# Altium footprint library Inductors THD.PcbLib: 25 footprints (part 1 of 3)
Each footprint in its own frame and in the unit in brackets; x right, y up, seen from the top. Pads: shape width x height; smd on the part's side, far side on the other; paste and mask are expansions set on the pad; w line width, h text height; cw(c..) or ccw(c..) is an arc to the next point about the centre after c.
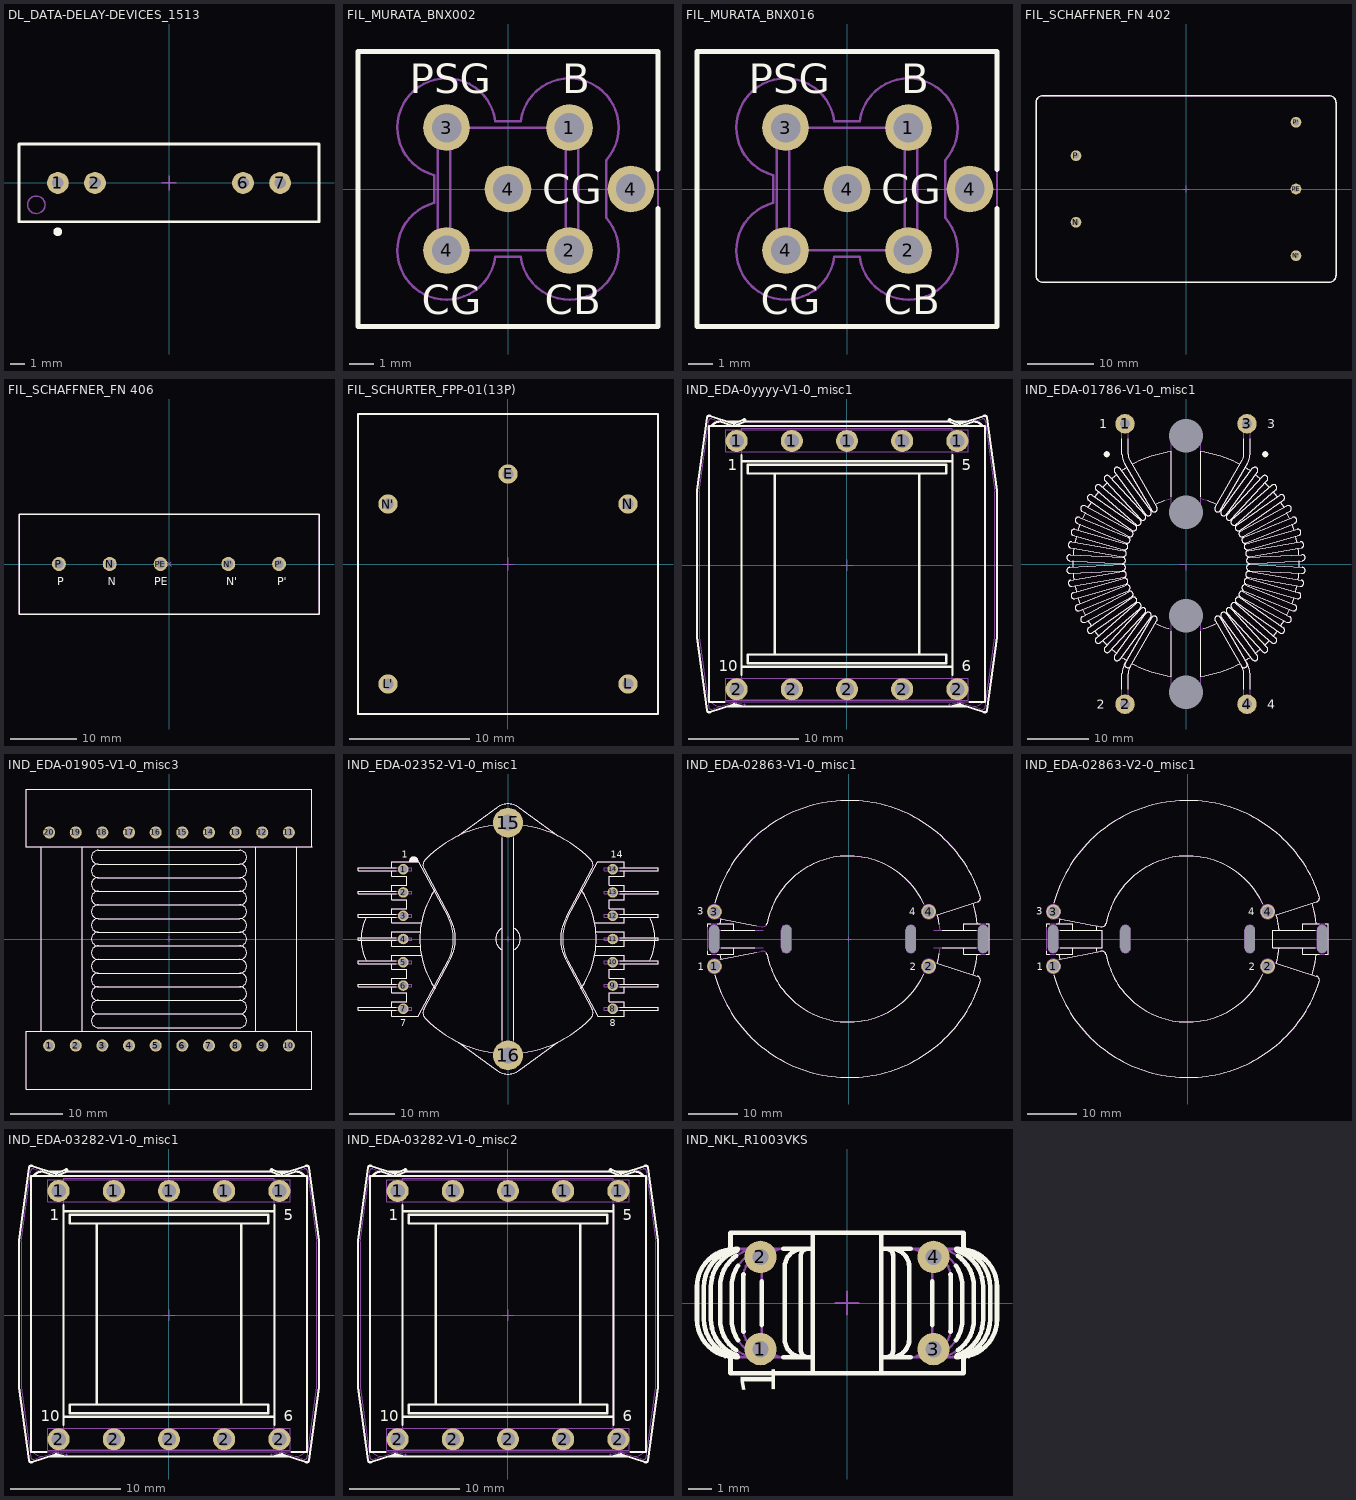
[diagram p0: the footprints below, top view; thin cyan lines are the x and y axes]

## DL_DATA-DELAY-DEVICES_1513 [mm] "Fixed SIP Delay Line 1513 Series"
height 7.11
pads (4):
  round 1.5 hole 0.8: 1(-7.62,0) 2(-5.08,0) 6(5.08,0) 7(7.62,0)
Top Overlay:
  circle w0.3: c-7.63,-3.35 r0.15
  lines w0.2: -10.287,-2.665 10.287,-2.665 10.287,2.665 -10.287,2.665 -10.287,-2.665
Mechanical 8:
  lines w0.1: -8.12,0 -7.62,0 ; -7.62,-0.5 -7.62,0 ; -7.62,0.5 -7.62,0 ; -7.12,0 -7.62,0 ; -5.58,0 -5.08,0 ; -5.08,-0.5 -5.08,0 ; -5.08,0.5 -5.08,0 ; -4.58,0 -5.08,0 ; -0.5,0 0,0 ; 0,-0.5 0,0 ; 0,0.5 0,0 ; 0.5,0 0,0 ; 4.58,0 5.08,0 ; 5.08,-0.5 5.08,0 ; 5.08,0.5 5.08,0 ; 5.58,0 5.08,0 ; 7.12,0 7.62,0 ; 7.62,-0.5 7.62,0 ; 7.62,0.5 7.62,0 ; 8.12,0 7.62,0
Mechanical 14:
  circle w0.1: c-9.1,-1.5 r0.6
  lines w0.1: -10.287,-2.665 -10.287,2.665 10.287,2.665 10.287,-2.665 -10.287,-2.665
3D body "DATA-DELAY-DEVICES_1513.stp": height 7.11, standoff -3.8, extent -10.287,-2.665 10.287,2.665

## FIL_MURATA_BNX002 [mm] "Block Type EMIFIL LC Combined Type, BNX002 Series"
height 13
pads (6):
  round 1.9 hole 1.2: 1(2.5,2.5) 2(2.5,-2.5) 3(-2.5,2.5) 4(-2.5,-2.5) 4(0,0) 4(5,0)
Top Overlay:
  lines w0.2: 6.1,-0.783 6.1,-5.6 -6.1,-5.6 -6.1,5.6 6.1,5.6 6.1,0.783
  text "CG" at 1.4,-0.6 h1.2
  text "PSG" at -4,3.9 h1.2
  text "CG" at -3.5,-5.1 h1.2
  text "CB" at 1.5,-5.1 h1.2
  text "B" at 2.2,3.9 h1.2
Mechanical 8:
  lines w0.1: -3,-2.5 -2.5,-2.5 ; -3,2.5 -2.5,2.5 ; -2.5,-3 -2.5,-2.5 ; -2.5,-2 -2.5,-2.5 ; -2.5,2 -2.5,2.5 ; -2.5,3 -2.5,2.5 ; -2,-2.5 -2.5,-2.5 ; -2,2.5 -2.5,2.5 ; -0.5,0 0,0 ; 0,-0.5 0,0 ; 0,0.5 0,0 ; 0.5,0 0,0 ; 2,-2.5 2.5,-2.5 ; 2,2.5 2.5,2.5 ; 2.5,-3 2.5,-2.5 ; 2.5,-2 2.5,-2.5 ; 2.5,2 2.5,2.5 ; 2.5,3 2.5,2.5 ; 3,-2.5 2.5,-2.5 ; 3,2.5 2.5,2.5 ; 4.5,0 5,0 ; 5,-0.5 5,0 ; 5,0.5 5,0 ; 5.5,0 5,0
Mechanical 14:
  lines w0.1: -2.35,-2.5 -2.35,2.5 ; 2.35,-2.5 2.35,2.473 ; -6.1,-5.6 6.1,-5.6 6.1,5.6 -6.1,5.6 -6.1,-5.6 ; -3,-0.564 ccw(c-2.5,-2.5) -0.516,-2.75 0.516,-2.75 ccw(c2.5,-2.5) 4,-1.177 4,1.177 ccw(c2.5,2.5) 0.516,2.75 -0.516,2.75 ccw(c-2.5,2.5) -3,0.564 -3,-0.564 ; -2.85,-2.5 2.85,-2.5 2.85,2.5 -2.85,2.5 -2.85,-2.5
3D body "FIL_MURATA_BNX002.stp": height 12.5, standoff -5, extent -6.1,-5.6 6.1,5.6

## FIL_MURATA_BNX016 [mm] "Block Type EMIFIL LC Combined Type, BNX01* Series"
height 8.5
pads (6):
  round 1.9 hole 1.2: 1(2.5,2.5) 2(2.5,-2.5) 3(-2.5,2.5) 4(-2.5,-2.5) 4(0,0) 4(5,0)
Top Overlay:
  lines w0.2: 6.1,-0.783 6.1,-5.6 -6.1,-5.6 -6.1,5.6 6.1,5.6 6.1,0.783
  text "B" at 2.2,3.9 h1.2
  text "CB" at 1.5,-5.1 h1.2
  text "CG" at -3.5,-5.1 h1.2
  text "PSG" at -4,3.9 h1.2
  text "CG" at 1.4,-0.6 h1.2
Mechanical 8:
  lines w0.1: -3,-2.5 -2.5,-2.5 ; -3,2.5 -2.5,2.5 ; -2.5,-3 -2.5,-2.5 ; -2.5,-2 -2.5,-2.5 ; -2.5,2 -2.5,2.5 ; -2.5,3 -2.5,2.5 ; -2,-2.5 -2.5,-2.5 ; -2,2.5 -2.5,2.5 ; -0.5,0 0,0 ; 0,-0.5 0,0 ; 0,0.5 0,0 ; 0.5,0 0,0 ; 2,-2.5 2.5,-2.5 ; 2,2.5 2.5,2.5 ; 2.5,-3 2.5,-2.5 ; 2.5,-2 2.5,-2.5 ; 2.5,2 2.5,2.5 ; 2.5,3 2.5,2.5 ; 3,-2.5 2.5,-2.5 ; 3,2.5 2.5,2.5 ; 4.5,0 5,0 ; 5,-0.5 5,0 ; 5,0.5 5,0 ; 5.5,0 5,0
Mechanical 14:
  lines w0.1: -2.35,-2.5 -2.35,2.5 ; 2.35,-2.5 2.35,2.473 ; -6.1,-5.6 6.1,-5.6 6.1,5.6 -6.1,5.6 -6.1,-5.6 ; -3,-0.564 ccw(c-2.5,-2.5) -0.516,-2.75 0.516,-2.75 ccw(c2.5,-2.5) 4,-1.177 4,1.177 ccw(c2.5,2.5) 0.516,2.75 -0.516,2.75 ccw(c-2.5,2.5) -3,0.564 -3,-0.564 ; -2.85,-2.5 2.85,-2.5 2.85,2.5 -2.85,2.5 -2.85,-2.5
3D body "FIL_MURATA_BNX016.stp": height 12, standoff -5, extent -6.1,-5.6 6.1,5.6

## FIL_SCHAFFNER_FN 402 [mm] "0.6 to 6.5A 250VAC Single Phase Low Cost PCB Filter (Body 45 x 28x 16.5mm)"
height 16.5
pads (5):
  round 1.6 hole 0.9: N(-16.5,-5) N'(16.5,-10) P(-16.5,5) P'(16.5,10) PE(16.5,0)
Top Overlay:
  lines w0.2: -22.5,-13 ccw(c-21.5,-13) -21.5,-14 21.5,-14 ccw(c21.5,-13) 22.5,-13 22.5,13 ccw(c21.5,13) 21.5,14 -21.5,14 ccw(c-21.5,13) -22.5,13 -22.5,-13
Mechanical 8:
  lines w0.1: -17,-5 -16.5,-5 ; -17,5 -16.5,5 ; -16.5,-5.5 -16.5,-5 ; -16.5,-4.5 -16.5,-5 ; -16.5,4.5 -16.5,5 ; -16.5,5.5 -16.5,5 ; -16,-5 -16.5,-5 ; -16,5 -16.5,5 ; -0.5,0 0,0 ; 0,-0.5 0,0 ; 0,0.5 0,0 ; 0.5,0 0,0 ; 16,-10 16.5,-10 ; 16,0 16.5,0 ; 16,10 16.5,10 ; 16.5,-10.5 16.5,-10 ; 16.5,-9.5 16.5,-10 ; 16.5,-0.5 16.5,0 ; 16.5,0.5 16.5,0 ; 16.5,9.5 16.5,10 ; 16.5,10.5 16.5,10 ; 17,-10 16.5,-10 ; 17,0 16.5,0 ; 17,10 16.5,10
Mechanical 14:
  lines w0.1: -20.5,14 -21.5,14 ; -21.5,14 ccw(c-21.5,13) -22.5,13 -22.5,-13 ccw(c-21.5,-13) -21.5,-14 21.5,-14 ccw(c21.5,-13) 22.5,-13 22.5,13 ccw(c21.5,13) 21.5,14 -21.5,14
3D body "FIL_SCHAFFNER_FN 402.stp": height 16.5, standoff -3.6, extent -22.5,-14 22.5,14

## FIL_SCHAFFNER_FN 406 [mm] "0.5 to 8.4A 250VAC Single Phase Ultra Compact EMC Filter (Body 45 x 15 x 28mm)"
height 28
pads (5):
  round 2.1 hole 1.4: N(-8.89,0) N'(8.89,0) P(-16.51,0) P'(16.51,0) PE(-1.27,0)
Top Overlay:
  lines w0.2: -22.5,-7.5 22.5,-7.5 22.5,7.5 -22.5,7.5 -22.5,-7.5
  text "P" at -16.8,-3.2 h1.2
  text "N" at -9.18,-3.2 h1.2
  text "PE" at -2.2,-3.2 h1.2
  text "N'" at 8.6,-3.2 h1.2
  text "P'" at 16.22,-3.2 h1.2
Mechanical 8:
  lines w0.1: -17.01,0 -16.51,0 ; -16.51,-0.5 -16.51,0 ; -16.51,0.5 -16.51,0 ; -16.01,0 -16.51,0 ; -9.39,0 -8.89,0 ; -8.89,-0.5 -8.89,0 ; -8.89,0.5 -8.89,0 ; -8.39,0 -8.89,0 ; -1.77,0 -1.27,0 ; -1.27,-0.5 -1.27,0 ; -1.27,0.5 -1.27,0 ; -0.77,0 -1.27,0 ; -0.354,-0.354 0,0 ; -0.354,0.354 0,0 ; 0.354,-0.354 0,0 ; 0.354,0.354 0,0 ; 8.39,0 8.89,0 ; 8.89,-0.5 8.89,0 ; 8.89,0.5 8.89,0 ; 9.39,0 8.89,0 ; 16.01,0 16.51,0 ; 16.51,-0.5 16.51,0 ; 16.51,0.5 16.51,0 ; 17.01,0 16.51,0
Mechanical 14:
  lines w0.1: -22.5,-7.5 22.5,-7.5 22.5,7.5 -22.5,7.5 -22.5,-7.5
3D body "FIL_SCHAFFNER_FN 406.stp": height 29.5, standoff -3.6, extent -22.5,-7.55 22.5,7.539

## FIL_SCHURTER_FPP-01(13P) [mm] "0.6 to 6.5A 250VAC Single Phase Low Cost PCB Filter (Body 45 x 28x 16.5mm)"
height 16.5
pads (5):
  round 1.6 hole 0.9: E(0,7.5) L(10,-10) L'(-10,-10) N(10,5) N'(-10,5)
Top Overlay:
  lines w0.2: -12.5,-12.5 12.5,-12.5 12.5,12.5 -12.5,12.5 -12.5,-12.5
Mechanical 8:
  lines w0.1: -10.5,-10 -10,-10 ; -10.5,5 -10,5 ; -10,-10.5 -10,-10 ; -10,-9.5 -10,-10 ; -10,4.5 -10,5 ; -10,5.5 -10,5 ; -9.5,-10 -10,-10 ; -9.5,5 -10,5 ; -0.5,0 0,0 ; -0.5,7.5 0,7.5 ; 0,-0.5 0,0 ; 0,0.5 0,0 ; 0,7 0,7.5 ; 0,8 0,7.5 ; 0.5,0 0,0 ; 0.5,7.5 0,7.5 ; 9.5,-10 10,-10 ; 9.5,5 10,5 ; 10,-10.5 10,-10 ; 10,-9.5 10,-10 ; 10,4.5 10,5 ; 10,5.5 10,5 ; 10.5,-10 10,-10 ; 10.5,5 10,5
Mechanical 14:
  lines w0.1: -12.5,-12.5 12.5,-12.5 12.5,12.5 -12.5,12.5 -12.5,-12.5
3D body "FIL_SCHURTER_FPP-01(13P).stp": height 25, standoff -3.8, extent -12.5,-12.5 12.5,12.5

## IND_EDA-0yyyy-V1-0_misc1 [mm] "see EDA-0yyyy-V1-0 _misc1"
height 12.9
pads (10):
  round 2 hole 1.3: 1(-10,11.25) 1(-5,11.25) 1(0,11.25) 1(5,11.25) 1(10,11.25) 2(-10,-11.25) 2(-5,-11.25) 2(0,-11.25) 2(5,-11.25) 2(10,-11.25)
Top Overlay:
  lines w0.2: -12.3,12.6 cw(c-11.5,12) -11.5,13 -11.482,13 -10.313,12.61 ccw(c-10.25,12.8) -10.169,12.617 -9.269,13.017 ccw(c-9.309,13.109) -9.35,13.2 -10.179,12.832 cw(c-10.26,13.014) -10.324,12.825 -12.421,13.524 ccw(c-12.485,13.334) -12.683,13.361 -13.588,6.758 ccw(c-13.389,6.731) -13.589,6.731 -13.589,-6.531 ccw(c-13.389,-6.531) -13.588,-6.558 -12.683,-13.161 ccw(c-12.485,-13.134) -12.421,-13.324 -10.303,-12.618 cw(c-10.239,-12.807) -10.196,-12.612 -9.35,-12.8 -10.85,-12.8 ; -11.1,-12.4 -12.5,-12.4 -12.5,12.6 12.5,12.6 12.5,-12.4 11.1,-12.4 ; -10.85,13 -9.8,13 ; -9.55,-9.95 -9.55,9.95 ; -9.55,-9.2 9.55,-9.2 ; -9.55,9.4 9.55,9.4 ; -9.308,13 9.308,13 ; -9.307,-12.8 9.307,-12.8 ; -6.55,-8.1 -6.55,8.3 ; 6.55,-8.1 6.55,8.3 ; 9.55,-9.95 9.55,9.95 ; 9.8,13 10.85,13 ; 10.85,-12.8 9.35,-12.8 10.196,-12.612 cw(c10.239,-12.807) 10.303,-12.618 12.421,-13.324 ccw(c12.485,-13.134) 12.683,-13.161 13.588,-6.558 ccw(c13.39,-6.531) 13.59,-6.531 13.59,6.731 ccw(c13.39,6.731) 13.588,6.758 12.683,13.361 ccw(c12.485,13.334) 12.421,13.524 10.324,12.825 cw(c10.26,13.014) 10.179,12.832 9.35,13.2 ccw(c9.309,13.109) 9.269,13.017 10.169,12.617 ccw(c10.25,12.8) 10.313,12.61 11.498,13.005 ; 11.483,13 11.5,13 cw(c11.5,12) 12.3,12.6 ; -9,-8.9 9,-8.9 9,-8.1 -9,-8.1 -9,-8.9 ; -9,8.3 9,8.3 9,9.1 -9,9.1 -9,8.3
  text "1" at -10.8,8.6 h1
  text "5" at 10.4,8.6 h1
  text "6" at 10.4,-9.6 h1
  text "10" at -11.6,-9.6 h1
Mechanical 8:
  lines w0.1: -10.5,-11.25 -10,-11.25 ; -10.5,11.25 -10,11.25 ; -10,-11.75 -10,-11.25 ; -10,-10.75 -10,-11.25 ; -10,10.75 -10,11.25 ; -10,11.75 -10,11.25 ; -9.5,-11.25 -10,-11.25 ; -9.5,11.25 -10,11.25 ; -5.5,-11.25 -5,-11.25 ; -5.5,11.25 -5,11.25 ; -5,-11.75 -5,-11.25 ; -5,-10.75 -5,-11.25 ; -5,10.75 -5,11.25 ; -5,11.75 -5,11.25 ; -4.5,-11.25 -5,-11.25 ; -4.5,11.25 -5,11.25 ; -0.5,-11.25 0,-11.25 ; -0.5,0 0,0 ; -0.5,11.25 0,11.25 ; 0,-11.75 0,-11.25 ; 0,-10.75 0,-11.25 ; 0,-0.5 0,0 ; 0,0.5 0,0 ; 0,10.75 0,11.25 ; 0,11.75 0,11.25 ; 0.5,-11.25 0,-11.25 ; 0.5,0 0,0 ; 0.5,11.25 0,11.25 ; 4.5,-11.25 5,-11.25 ; 4.5,11.25 5,11.25 ; 5,-11.75 5,-11.25 ; 5,-10.75 5,-11.25 ; 5,10.75 5,11.25 ; 5,11.75 5,11.25 ; 5.5,-11.25 5,-11.25 ; 5.5,11.25 5,11.25 ; 9.5,-11.25 10,-11.25 ; 9.5,11.25 10,11.25 ; 10,-11.75 10,-11.25 ; 10,-10.75 10,-11.25 ; 10,10.75 10,11.25 ; 10,11.75 10,11.25 ; 10.5,-11.25 10,-11.25 ; 10.5,11.25 10,11.25 ; -11,-12.25 11,-12.25 11,-10.25 -11,-10.25 -11,-12.25 ; -11,10.25 11,10.25 11,12.25 -11,12.25 -11,10.25
Mechanical 14:
  lines w0.1: -12.3,-12.4 ccw(c-11.5,-11.8) -11.5,-12.8 -11.482,-12.8 ; -12.3,12.6 cw(c-11.5,12) -11.5,13 -11.482,13 ; -10.85,-12.8 -9.35,-12.8 ; -10.85,13 -9.8,13 ; -9.55,-9.2 9.55,-9.2 ; -9.55,9.4 9.55,9.4 ; -9.308,13 9.308,13 ; -9.307,-12.8 9.307,-12.8 ; -6.55,-8.1 -6.55,8.3 ; 6.55,-8.1 6.55,8.3 ; 9.8,13 10.85,13 ; 10.85,-12.8 9.35,-12.8 ; 11.483,-12.8 11.5,-12.8 ccw(c11.5,-11.8) 12.3,-12.4 ; 11.483,13 11.5,13 cw(c11.5,12) 12.3,12.6 ; -9.35,-12.8 ccw(c-9.328,-12.702) -9.307,-12.605 -10.207,-12.405 ccw(c-10.25,-12.6) -10.313,-12.41 -12.256,-13.058 cw(c-12.319,-12.868) -12.517,-12.895 -13.386,-6.558 cw(c-13.188,-6.53) -13.388,-6.531 -13.406,6.597 cw(c-13.206,6.598) -13.404,6.625 -12.517,13.095 cw(c-12.319,13.068) -12.256,13.258 -10.313,12.61 ccw(c-10.25,12.8) -10.169,12.617 -9.269,13.017 ccw(c-9.309,13.109) -9.35,13.2 -10.179,12.832 cw(c-10.26,13.014) -10.324,12.825 -12.421,13.524 ccw(c-12.485,13.334) -12.683,13.361 -13.588,6.758 ccw(c-13.389,6.731) -13.589,6.731 -13.589,-6.531 ccw(c-13.389,-6.531) -13.588,-6.558 -12.683,-13.161 ccw(c-12.485,-13.134) -12.421,-13.324 -10.303,-12.618 cw(c-10.239,-12.807) -10.196,-12.612 -9.35,-12.8 ; 9.35,-12.8 cw(c9.328,-12.702) 9.307,-12.605 10.207,-12.405 cw(c10.25,-12.6) 10.313,-12.41 12.256,-13.058 ccw(c12.319,-12.868) 12.517,-12.895 13.386,-6.558 ccw(c13.188,-6.53) 13.388,-6.531 13.406,6.598 ccw(c13.206,6.598) 13.404,6.625 12.517,13.095 ccw(c12.319,13.068) 12.256,13.258 10.313,12.61 cw(c10.25,12.8) 10.169,12.617 9.269,13.017 cw(c9.309,13.109) 9.35,13.2 10.179,12.832 ccw(c10.26,13.014) 10.324,12.825 12.421,13.524 cw(c12.485,13.334) 12.683,13.361 13.588,6.758 cw(c13.39,6.731) 13.59,6.731 13.59,-6.531 cw(c13.39,-6.531) 13.588,-6.558 12.683,-13.161 cw(c12.485,-13.134) 12.421,-13.324 10.303,-12.618 ccw(c10.239,-12.807) 10.196,-12.612 9.35,-12.8 ; -12.5,-12.4 12.5,-12.4 12.5,12.6 -12.5,12.6 -12.5,-12.4 ; -9.55,-12.2 9.55,-12.2 9.55,12.4 -9.55,12.4 -9.55,-12.2 ; -9,-8.9 9,-8.9 9,-8.1 -9,-8.1 -9,-8.9 ; -9,8.3 9,8.3 9,9.1 -9,9.1 -9,8.3
Multi-Layer:
  lines w2: -10,-11.25 10,-11.25 ; -10,11.25 10,11.25
3D body "IND_EDA-0yyyy-V1-0_misc1.stp": height 12.9, standoff -3.5, extent -13.589,-13.333 13.59,13.534

## IND_EDA-01786-V1-0_misc1 [mm] "see EDA-01786-V1-0_misc1"
height 33.8
pads (8):
  round 3.2 hole 1.6: 1(-10,23) 2(-10,-23) 3(10,23) 4(10,-23)
  round 1 hole 5.5 unplated mask+2.25: 5(0,-21) 5(0,-8.5) 5(0,8.5) 5(0,21)
Top Overlay:
  drawing of 226 lines, arcs and shapes, not listed
  text "1" at -14.238,22.25 h1.5
  text "3" at 13.333,22.25 h1.5
  text "2" at -14.667,-23.75 h1.5
  text "4" at 13.286,-23.75 h1.5
Mechanical 8:
  lines w0.1: -11,-23 -10,-23 -10,-24 ; -11,23 -10,23 -10,22 ; -1,-21 0,-21 0,-22 ; -1,-8.5 0,-8.5 0,-9.5 ; -1,0 0,0 0,-1 ; -1,8.5 0,8.5 0,7.5 ; -1,21 0,21 0,20 ; 9,-23 10,-23 10,-24 ; 9,23 10,23 10,22
Mechanical 14:
  drawing of 244 lines, arcs and shapes, not listed
3D body "IND_EDA-01786-V1-0_misc1.stp": height 33.8, standoff -7.2, extent -19.54,-23.5 19.54,23.5

## IND_EDA-01905-V1-0_misc3 [mm] "see EDA-01905-V1-0_misc3"
height 40.6
pads (20):
  round 2.3 hole 1.6: 1(-22.86,-20.32) 2(-17.78,-20.32) 3(-12.7,-20.32) 4(-7.62,-20.32) 5(-2.54,-20.32) 6(2.54,-20.32) 7(7.62,-20.32) 8(12.7,-20.32) 9(17.78,-20.32) 10(22.86,-20.32) 11(22.86,20.32) 12(17.78,20.32) 13(12.7,20.32) 14(7.62,20.32) 15(2.54,20.32) 16(-2.54,20.32) 17(-7.62,20.32) 18(-12.7,20.32) 19(-17.78,20.32) 20(-22.86,20.32)
Top Overlay:
  lines w0.2: -27.35,17.6 27.35,17.6 ; -27.25,17.6 -27.25,28.6 27.25,28.6 27.25,17.6 ; -24.35,-17.6 -24.35,17.6 ; -16.583,-17.6 -16.583,17.6 ; 16.583,-17.6 16.583,17.6 ; 24.35,-17.6 24.35,17.6 ; -13.5,-14.3 cw(c-13.5,-13) -13.5,-11.7 ; -13.5,-14.3 ccw(c-13.5,-15.6) -13.5,-16.9 13.5,-16.9 ccw(c13.5,-15.6) 13.5,-14.3 ; -13.5,-14.3 13.5,-14.3 ; -13.5,-11.7 cw(c-13.5,-10.4) -13.5,-9.1 ; -13.5,-11.7 13.5,-11.7 ; -13.5,-9.1 cw(c-13.5,-7.8) -13.5,-6.5 ; -13.5,-9.1 13.5,-9.1 ; -13.5,-6.5 cw(c-13.5,-5.2) -13.5,-3.9 ; -13.5,-6.5 13.5,-6.5 ; -13.5,-3.9 cw(c-13.5,-2.6) -13.5,-1.3 ; -13.5,-3.9 13.5,-3.9 ; -13.5,-1.3 cw(c-13.5,0) -13.5,1.3 ; -13.5,-1.3 13.5,-1.3 ; -13.5,1.3 cw(c-13.5,2.6) -13.5,3.9 ; -13.5,1.3 13.5,1.3 ; -13.5,3.9 cw(c-13.5,5.2) -13.5,6.5 ; -13.5,3.9 13.5,3.9 ; -13.5,6.5 cw(c-13.5,7.8) -13.5,9.1 ; -13.5,6.5 13.5,6.5 ; -13.5,9.1 cw(c-13.5,10.4) -13.5,11.7 ; -13.5,9.1 13.5,9.1 ; -13.5,11.7 cw(c-13.5,13) -13.5,14.3 ; -13.5,11.7 13.5,11.7 ; -13.5,14.3 cw(c-13.5,15.6) -13.5,16.9 13.5,16.9 cw(c13.5,15.6) 13.5,14.3 ; -13.5,14.3 13.5,14.3 ; -13.5,14.3 13.5,14.3 ; 13.5,-14.3 ccw(c13.5,-13) 13.5,-11.7 ; 13.5,-11.7 ccw(c13.5,-10.4) 13.5,-9.1 ; 13.5,-9.1 ccw(c13.5,-7.8) 13.5,-6.5 ; 13.5,-6.5 ccw(c13.5,-5.2) 13.5,-3.9 ; 13.5,-3.9 ccw(c13.5,-2.6) 13.5,-1.3 ; 13.5,-1.3 ccw(c13.5,0) 13.5,1.3 ; 13.5,1.3 ccw(c13.5,2.6) 13.5,3.9 ; 13.5,3.9 ccw(c13.5,5.2) 13.5,6.5 ; 13.5,6.5 ccw(c13.5,7.8) 13.5,9.1 ; 13.5,9.1 ccw(c13.5,10.4) 13.5,11.7 ; 13.5,11.7 ccw(c13.5,13) 13.5,14.3 ; -27.25,-28.6 -27.25,-17.6 27.25,-17.6 27.25,-28.6 -27.25,-28.6
Mechanical 8:
  lines w0.1: -23.36,-20.32 -22.86,-20.32 ; -23.36,20.32 -22.86,20.32 ; -22.86,-20.82 -22.86,-20.32 ; -22.86,-19.82 -22.86,-20.32 ; -22.86,19.82 -22.86,20.32 ; -22.86,20.82 -22.86,20.32 ; -22.36,-20.32 -22.86,-20.32 ; -22.36,20.32 -22.86,20.32 ; -18.28,-20.32 -17.78,-20.32 ; -18.28,20.32 -17.78,20.32 ; -17.78,-20.82 -17.78,-20.32 ; -17.78,-19.82 -17.78,-20.32 ; -17.78,19.82 -17.78,20.32 ; -17.78,20.82 -17.78,20.32 ; -17.28,-20.32 -17.78,-20.32 ; -17.28,20.32 -17.78,20.32 ; -13.2,-20.32 -12.7,-20.32 ; -13.2,20.32 -12.7,20.32 ; -12.7,-20.82 -12.7,-20.32 ; -12.7,-19.82 -12.7,-20.32 ; -12.7,19.82 -12.7,20.32 ; -12.7,20.82 -12.7,20.32 ; -12.2,-20.32 -12.7,-20.32 ; -12.2,20.32 -12.7,20.32 ; -8.12,-20.32 -7.62,-20.32 ; -8.12,20.32 -7.62,20.32 ; -7.62,-20.82 -7.62,-20.32 ; -7.62,-19.82 -7.62,-20.32 ; -7.62,19.82 -7.62,20.32 ; -7.62,20.82 -7.62,20.32 ; -7.12,-20.32 -7.62,-20.32 ; -7.12,20.32 -7.62,20.32 ; -3.04,-20.32 -2.54,-20.32 ; -3.04,20.32 -2.54,20.32 ; -2.54,-20.82 -2.54,-20.32 ; -2.54,-19.82 -2.54,-20.32 ; -2.54,19.82 -2.54,20.32 ; -2.54,20.82 -2.54,20.32 ; -2.04,-20.32 -2.54,-20.32 ; -2.04,20.32 -2.54,20.32 ; -0.5,0 0,0 ; 0,-0.5 0,0 ; 0,0.5 0,0 ; 0.5,0 0,0 ; 2.04,-20.32 2.54,-20.32 ; 2.04,20.32 2.54,20.32 ; 2.54,-20.82 2.54,-20.32 ; 2.54,-19.82 2.54,-20.32 ; 2.54,19.82 2.54,20.32 ; 2.54,20.82 2.54,20.32 ; 3.04,-20.32 2.54,-20.32 ; 3.04,20.32 2.54,20.32 ; 7.12,-20.32 7.62,-20.32 ; 7.12,20.32 7.62,20.32 ; 7.62,-20.82 7.62,-20.32 ; 7.62,-19.82 7.62,-20.32 ; 7.62,19.82 7.62,20.32 ; 7.62,20.82 7.62,20.32 ; 8.12,-20.32 7.62,-20.32 ; 8.12,20.32 7.62,20.32 ; 12.2,-20.32 12.7,-20.32 ; 12.2,20.32 12.7,20.32 ; 12.7,-20.82 12.7,-20.32 ; 12.7,-19.82 12.7,-20.32 ; 12.7,19.82 12.7,20.32 ; 12.7,20.82 12.7,20.32 ; 13.2,-20.32 12.7,-20.32 ; 13.2,20.32 12.7,20.32 ; 17.28,-20.32 17.78,-20.32 ; 17.28,20.32 17.78,20.32 ; 17.78,-20.82 17.78,-20.32 ; 17.78,-19.82 17.78,-20.32 ; 17.78,19.82 17.78,20.32 ; 17.78,20.82 17.78,20.32 ; 18.28,-20.32 17.78,-20.32 ; 18.28,20.32 17.78,20.32 ; 22.36,-20.32 22.86,-20.32 ; 22.36,20.32 22.86,20.32 ; 22.86,-20.82 22.86,-20.32 ; 22.86,-19.82 22.86,-20.32 ; 22.86,19.82 22.86,20.32 ; 22.86,20.82 22.86,20.32 ; 23.36,-20.32 22.86,-20.32 ; 23.36,20.32 22.86,20.32
Mechanical 14:
  lines w0.1: -27.35,17.6 27.35,17.6 ; -27.25,17.6 -27.25,28.6 27.25,28.6 27.25,17.6 ; -24.35,-17.6 -24.35,17.6 ; -16.583,-17.6 -16.583,17.6 ; 16.583,-17.6 16.583,17.6 ; 24.35,-17.6 24.35,17.6 ; -13.5,-14.3 cw(c-13.5,-13) -13.5,-11.7 ; -13.5,-14.3 ccw(c-13.5,-15.6) -13.5,-16.9 13.5,-16.9 ccw(c13.5,-15.6) 13.5,-14.3 ; -13.5,-14.3 13.5,-14.3 ; -13.5,-11.7 cw(c-13.5,-10.4) -13.5,-9.1 ; -13.5,-11.7 13.5,-11.7 ; -13.5,-9.1 cw(c-13.5,-7.8) -13.5,-6.5 ; -13.5,-9.1 13.5,-9.1 ; -13.5,-6.5 cw(c-13.5,-5.2) -13.5,-3.9 ; -13.5,-6.5 13.5,-6.5 ; -13.5,-3.9 cw(c-13.5,-2.6) -13.5,-1.3 ; -13.5,-3.9 13.5,-3.9 ; -13.5,-1.3 cw(c-13.5,0) -13.5,1.3 ; -13.5,-1.3 13.5,-1.3 ; -13.5,1.3 cw(c-13.5,2.6) -13.5,3.9 ; -13.5,1.3 13.5,1.3 ; -13.5,3.9 cw(c-13.5,5.2) -13.5,6.5 ; -13.5,3.9 13.5,3.9 ; -13.5,6.5 cw(c-13.5,7.8) -13.5,9.1 ; -13.5,6.5 13.5,6.5 ; -13.5,9.1 cw(c-13.5,10.4) -13.5,11.7 ; -13.5,9.1 13.5,9.1 ; -13.5,11.7 cw(c-13.5,13) -13.5,14.3 ; -13.5,11.7 13.5,11.7 ; -13.5,14.3 cw(c-13.5,15.6) -13.5,16.9 13.5,16.9 cw(c13.5,15.6) 13.5,14.3 ; -13.5,14.3 13.5,14.3 ; -13.5,14.3 13.5,14.3 ; 13.5,-14.3 ccw(c13.5,-13) 13.5,-11.7 ; 13.5,-11.7 ccw(c13.5,-10.4) 13.5,-9.1 ; 13.5,-9.1 ccw(c13.5,-7.8) 13.5,-6.5 ; 13.5,-6.5 ccw(c13.5,-5.2) 13.5,-3.9 ; 13.5,-3.9 ccw(c13.5,-2.6) 13.5,-1.3 ; 13.5,-1.3 ccw(c13.5,0) 13.5,1.3 ; 13.5,1.3 ccw(c13.5,2.6) 13.5,3.9 ; 13.5,3.9 ccw(c13.5,5.2) 13.5,6.5 ; 13.5,6.5 ccw(c13.5,7.8) 13.5,9.1 ; 13.5,9.1 ccw(c13.5,10.4) 13.5,11.7 ; 13.5,11.7 ccw(c13.5,13) 13.5,14.3 ; -27.25,-28.6 -27.25,-17.6 27.25,-17.6 27.25,-28.6 -27.25,-28.6
3D body "IND_EDA-01905-V1-0_misc3.stp": height 43.4, standoff -3.86, extent -27.35,-28.6 27.35,28.6

## IND_EDA-02352-V1-0_misc1 [mm] "see EDA-02352-V1-0_misc1"
height 44.5
pads (16):
  round 2.3 hole 1.6: 1(-22.86,15.24) 2(-22.86,10.16) 3(-22.86,5.08) 4(-22.86,0) 5(-22.86,-5.08) 6(-22.86,-10.16) 7(-22.86,-15.24) 8(22.86,-15.24) 9(22.86,-10.16) 10(22.86,-5.08) 11(22.86,0) 12(22.86,5.08) 13(22.86,10.16) 14(22.86,15.24)
  round 6.5 hole 3.5: 15(0,25.4) 16(0,-25.4)
Top Overlay:
  lines w0.2: -30.902,-4.772 cw(c-22,0) -30.902,4.772 ; -25.4,-15.54 -25.4,-16.9 -19.6,-16.9 -13.098,-4.772 ccw(c-22,0) -13.098,4.772 -19.6,16.9 ; -25.4,-14.94 -25.4,-13.7 -22.1,-13.7 -22.1,-11.7 -25.4,-11.7 -25.4,-10.46 ; -25.4,-9.86 -25.4,-8.62 -22.1,-8.62 -22.1,-6.62 -25.4,-6.62 -25.4,-5.38 ; -25.4,-4.78 -25.4,-3.54 -18.922,-3.54 ; -25.4,-0.3 -25.4,-1.54 -19.188,-1.54 ; -25.4,0.3 -25.4,1.54 -19.188,1.54 ; -25.4,4.78 -25.4,3.54 -18.922,3.54 ; -25.4,5.38 -25.4,6.62 -22.1,6.62 -22.1,8.62 -25.4,8.62 -25.4,9.86 ; -25.4,10.46 -25.4,11.7 -22.1,11.7 -22.1,13.7 -25.4,13.7 -25.4,14.94 ; -25.4,15.54 -25.4,16.9 -19.6,16.9 ; -24.381,-15.54 -32.75,-15.54 -32.75,-14.94 -24.381,-14.94 ; -24.381,-10.46 -32.75,-10.46 -32.75,-9.86 -24.381,-9.86 ; -24.381,-5.38 -32.75,-5.38 -32.75,-4.78 -24.381,-4.78 ; -24.381,-0.3 -32.75,-0.3 -32.75,0.3 -24.381,0.3 ; -24.381,4.78 -32.75,4.78 -32.75,5.38 -24.381,5.38 ; -24.381,9.86 -32.75,9.86 -32.75,10.46 -24.381,10.46 ; -24.381,14.94 -32.75,14.94 -32.75,15.54 -24.381,15.54 ; -21.6,16.9 cw(c-20.6,16.9) -19.6,16.9 ; -21.4,16.9 cw(c-20.6,16.9) -19.8,16.9 ; -21.2,16.9 cw(c-20.6,16.9) -20,16.9 ; -21,16.9 cw(c-20.6,16.9) -20.2,16.9 ; -20.8,16.9 cw(c-20.6,16.9) -20.4,16.9 ; -15.932,-10.804 cw(c0,0) -15.932,10.804 ; -10.896,-22.501 -2.423,-28.708 ccw(c0,-25.4) 2.423,-28.708 10.896,-22.501 ; -10.896,22.501 -2.423,28.708 cw(c0,25.4) 2.423,28.708 10.896,22.501 ; -3.491,-24.755 cw(c0,0) -18.178,-17.163 cw(c-17.087,-16.133) -18.409,-15.425 -12.698,-4.772 ccw(c-21.6,0) -12.698,4.772 -18.409,15.425 cw(c-17.087,16.133) -18.178,17.163 cw(c0,0) -3.491,24.755 ; -1.3,-22.097 -1.3,22.097 ; -1.3,-2.366 cw(c0,0) -1.3,2.366 ; 1.3,-22.097 1.3,22.097 ; 1.3,-2.366 ccw(c0,0) 1.3,2.366 ; 3.491,-24.755 ccw(c0,0) 18.178,-17.163 ccw(c17.087,-16.133) 18.409,-15.425 12.698,-4.772 cw(c21.6,0) 12.698,4.772 18.409,15.425 ccw(c17.087,16.133) 18.178,17.163 ccw(c0,0) 3.491,24.755 ; 15.932,-10.804 ccw(c0,0) 15.932,10.804 ; 18.922,-3.54 25.4,-3.54 25.4,-4.78 ; 18.922,3.54 25.4,3.54 25.4,4.78 ; 19.188,-1.54 25.4,-1.54 25.4,-0.3 ; 19.188,1.54 25.4,1.54 25.4,0.3 ; 24.381,-15.54 32.75,-15.54 32.75,-14.94 24.381,-14.94 ; 24.381,-10.46 32.75,-10.46 32.75,-9.86 24.381,-9.86 ; 24.381,-5.38 32.75,-5.38 32.75,-4.78 24.381,-4.78 ; 24.381,-0.3 32.75,-0.3 32.75,0.3 24.381,0.3 ; 24.381,4.78 32.75,4.78 32.75,5.38 24.381,5.38 ; 24.381,9.86 32.75,9.86 32.75,10.46 24.381,10.46 ; 24.381,14.94 32.75,14.94 32.75,15.54 24.381,15.54 ; 25.4,-15.54 25.4,-16.9 19.6,-16.9 13.098,-4.772 cw(c22,0) 13.098,4.772 19.6,16.9 25.4,16.9 25.4,15.54 ; 25.4,-14.94 25.4,-13.7 22.1,-13.7 22.1,-11.7 25.4,-11.7 25.4,-10.46 ; 25.4,-9.86 25.4,-8.62 22.1,-8.62 22.1,-6.62 25.4,-6.62 25.4,-5.38 ; 25.4,5.38 25.4,6.62 22.1,6.62 22.1,8.62 25.4,8.62 25.4,9.86 ; 25.4,10.46 25.4,11.7 22.1,11.7 22.1,13.7 25.4,13.7 25.4,14.94 ; 30.902,-4.772 ccw(c22,0) 30.902,4.772
  text "1" at -23.238,17.75 h1.5
  text "7" at -23.478,-19.09 h1.5
  text "8" at 22.242,-19.09 h1.5
  text "14" at 22.482,17.75 h1.5
Mechanical 8:
  lines w0.1: -23.36,-15.24 -22.86,-15.24 ; -23.36,-10.16 -22.86,-10.16 ; -23.36,-5.08 -22.86,-5.08 ; -23.36,0 -22.86,0 ; -23.36,5.08 -22.86,5.08 ; -23.36,10.16 -22.86,10.16 ; -23.36,15.24 -22.86,15.24 ; -22.86,-15.74 -22.86,-15.24 ; -22.86,-14.74 -22.86,-15.24 ; -22.86,-10.66 -22.86,-10.16 ; -22.86,-9.66 -22.86,-10.16 ; -22.86,-5.58 -22.86,-5.08 ; -22.86,-4.58 -22.86,-5.08 ; -22.86,-0.5 -22.86,0 ; -22.86,0.5 -22.86,0 ; -22.86,4.58 -22.86,5.08 ; -22.86,5.58 -22.86,5.08 ; -22.86,9.66 -22.86,10.16 ; -22.86,10.66 -22.86,10.16 ; -22.86,14.74 -22.86,15.24 ; -22.86,15.74 -22.86,15.24 ; -22.36,-15.24 -22.86,-15.24 ; -22.36,-10.16 -22.86,-10.16 ; -22.36,-5.08 -22.86,-5.08 ; -22.36,0 -22.86,0 ; -22.36,5.08 -22.86,5.08 ; -22.36,10.16 -22.86,10.16 ; -22.36,15.24 -22.86,15.24 ; -0.5,-25.4 0,-25.4 ; -0.5,0 0,0 ; 0,-25.9 0,-25.4 ; 0,-24.9 0,-25.4 ; 0,-0.5 0,0 ; 0,0.5 0,0 ; 0.5,-25.4 0,-25.4 ; 0.5,0 0,0 ; 0,25.4 0,24.9 0,25.4 ; 0,25.4 0.5,25.4 0,25.4 ; 0,25.4 0,25.9 0,25.4 ; 0,25.4 -0.5,25.4 0,25.4 ; 22.86,-15.24 22.86,-15.74 22.86,-15.24 ; 22.86,-15.24 22.36,-15.24 22.86,-15.24 ; 22.86,-15.24 22.86,-14.74 22.86,-15.24 ; 22.86,-15.24 23.36,-15.24 22.86,-15.24 ; 22.86,-10.16 22.86,-10.66 22.86,-10.16 ; 22.86,-10.16 22.36,-10.16 22.86,-10.16 ; 22.86,-10.16 22.86,-9.66 22.86,-10.16 ; 22.86,-10.16 23.36,-10.16 22.86,-10.16 ; 22.86,-5.08 22.86,-5.58 22.86,-5.08 ; 22.86,-5.08 22.36,-5.08 22.86,-5.08 ; 22.86,-5.08 22.86,-4.58 22.86,-5.08 ; 22.86,-5.08 23.36,-5.08 22.86,-5.08 ; 22.86,0 22.86,-0.5 22.86,0 ; 22.86,0 22.36,0 22.86,0 ; 22.86,0 22.86,0.5 22.86,0 ; 22.86,0 23.36,0 22.86,0 ; 22.86,5.08 22.86,4.58 22.86,5.08 ; 22.86,5.08 22.36,5.08 22.86,5.08 ; 22.86,5.08 22.86,5.58 22.86,5.08 ; 22.86,5.08 23.36,5.08 22.86,5.08 ; 22.86,10.16 22.86,9.66 22.86,10.16 ; 22.86,10.16 22.36,10.16 22.86,10.16 ; 22.86,10.16 22.86,10.66 22.86,10.16 ; 22.86,10.16 23.36,10.16 22.86,10.16 ; 22.86,15.24 22.86,14.74 22.86,15.24 ; 22.86,15.24 22.36,15.24 22.86,15.24 ; 22.86,15.24 22.86,15.74 22.86,15.24 ; 22.86,15.24 23.36,15.24 22.86,15.24
Mechanical 14:
  drawing of 159 lines, arcs and shapes, not listed
  text "1" at -23.238,17.75 h1.5
  text "7" at -23.478,-19.09 h1.5
  text "8" at 22.242,-19.09 h1.5
  text "14" at 22.482,17.75 h1.5
3D body "IND_EPCOS_PM 50-39_Part2.stp": height -1.8, standoff -5.3, extent -18.572,-29.467 18.572,29.467
3D body "IND_EPCOS_PM 50-39_Part1.stp": height 44.47, standoff -8.5, extent -32.75,-26.7 32.75,27.1

## IND_EDA-02863-V1-0_misc1 [mm] "see EDA-02863-V1-0_misc1"
height 49.2
pads (8):
  round 2.9 hole 2.2: 1(-27.083,-5.5) 2(16.154,-5.5) 3(-27.083,5.5) 4(16.154,5.5)
  oval 1x4.6 hole 2 slot 5.6 at 90 deg unplated mask+0.5: 5(-27.15,0) 5(-12.55,0) 5(12.55,0) 5(27.15,0)
Top Overlay:
  lines w0.2: -28.4,-2.43 -28.4,-3.05 -27.78,-3.05 ; -28.4,2.43 -28.4,3.05 -27.78,3.05 ; -26.967,-7.346 ccw(c0,0) 26.582,-8.637 ccw(c25.726,-8.359) 26.006,-7.503 17.886,-4.85 ; -26.967,7.346 cw(c0,0) 26.582,8.637 cw(c25.726,8.359) 26.003,7.503 17.898,4.884 ; -26.52,-3.05 -23.2,-3.05 -23.2,-1.8 ; -26.52,3.05 -23.2,3.05 -23.2,1.8 ; -25.972,-3.05 ccw(c0,0) -25.826,-4.103 ; -25.972,3.05 cw(c0,0) -25.826,4.105 ; -25.862,-4.11 -18.62,-2.703 ; -25.86,4.111 -18.61,2.715 ; -25.75,-1.8 -18.95,-1.8 ; -25.75,1.8 -18.95,1.8 ; -16.608,2.836 ccw(c-17.323,3.383) -16.439,3.211 cw(c0,0) 15.183,7.075 ; -16.603,-2.831 cw(c-17.326,-3.368) -16.442,-3.196 ccw(c0,0) 15.183,-7.075 ; 17.896,4.883 cw(c0,0) 18.31,2.976 ; 17.903,-4.856 ccw(c0,0) 18.31,-2.976 ; 18.95,-1.8 25.75,-1.8 ; 18.95,1.8 25.75,1.8 ; 23.2,-1.8 23.2,-3.05 26.52,-3.05 ; 23.2,1.8 23.2,3.05 26.52,3.05 ; 25.134,-7.219 ccw(c0,0) 25.972,-3.05 ; 25.133,7.221 cw(c0,0) 25.972,3.05 ; 27.78,-3.05 28.4,-3.05 28.4,3.05 27.78,3.05
  text "3" at -30.6,4.9 h1.5
  text "2" at 12.3,-6.3 h1.5
  text "1" at -30.4,-6.3 h1.5
  text "4" at 12.2,4.8 h1.5
Mechanical 8:
  circle w0.1: c16.154,-5.5 r1.45
  circle w0.1: c16.154,-5.5 r1.1
  circle w0.1: c-27.083,-5.5 r1.45
  circle w0.1: c-27.083,-5.5 r1.1
  circle w0.1: c16.154,5.5 r1.45
  circle w0.1: c16.154,5.5 r1.1
  circle w0.1: c-27.083,5.5 r1.45
  circle w0.1: c-27.083,5.5 r1.1
  lines w0.1: -27.65,-1.8 -27.15,-1.8 ; -27.65,0 -27.15,0 ; -27.65,1.8 -27.15,1.8 ; -27.583,-5.5 -27.083,-5.5 ; -27.583,5.5 -27.083,5.5 ; -27.15,-2.3 -27.15,-1.8 ; -27.15,-1.3 -27.15,-1.8 ; -27.15,-0.5 -27.15,0 ; -27.15,0.5 -27.15,0 ; -27.15,1.3 -27.15,1.8 ; -27.15,2.3 -27.15,1.8 ; -27.083,-6 -27.083,-5.5 ; -27.083,-5 -27.083,-5.5 ; -27.083,5 -27.083,5.5 ; -27.083,6 -27.083,5.5 ; -26.65,-1.8 -27.15,-1.8 ; -26.65,0 -27.15,0 ; -26.65,1.8 -27.15,1.8 ; -26.583,-5.5 -27.083,-5.5 ; -26.583,5.5 -27.083,5.5 ; -13.05,-1.8 -12.55,-1.8 ; -13.05,0 -12.55,0 ; -13.05,1.8 -12.55,1.8 ; -12.55,-2.3 -12.55,-1.8 ; -12.55,-1.3 -12.55,-1.8 ; -12.55,-0.5 -12.55,0 ; -12.55,0.5 -12.55,0 ; -12.55,1.3 -12.55,1.8 ; -12.55,2.3 -12.55,1.8 ; -12.05,-1.8 -12.55,-1.8 ; -12.05,0 -12.55,0 ; -12.05,1.8 -12.55,1.8 ; -0.5,0 0,0 ; 0,-0.5 0,0 ; 0,0.5 0,0 ; 0.5,0 0,0 ; 12.05,-1.8 12.55,-1.8 ; 12.05,0 12.55,0 ; 12.05,1.8 12.55,1.8 ; 12.55,-2.3 12.55,-1.8 ; 12.55,-1.3 12.55,-1.8 ; 12.55,-0.5 12.55,0 ; 12.55,0.5 12.55,0 ; 12.55,1.3 12.55,1.8 ; 12.55,2.3 12.55,1.8 ; 13.05,-1.8 12.55,-1.8 ; 13.05,0 12.55,0 ; 13.05,1.8 12.55,1.8 ; 15.654,-5.5 16.154,-5.5 ; 15.654,5.5 16.154,5.5 ; 16.154,-6 16.154,-5.5 ; 16.154,-5 16.154,-5.5 ; 16.154,5 16.154,5.5 ; 16.154,6 16.154,5.5 ; 16.654,-5.5 16.154,-5.5 ; 16.654,5.5 16.154,5.5 ; 26.65,-1.8 27.15,-1.8 ; 26.65,0 27.15,0 ; 26.65,1.8 27.15,1.8 ; 27.15,-2.3 27.15,-1.8 ; 27.15,-1.3 27.15,-1.8 ; 27.15,-0.5 27.15,0 ; 27.15,0.5 27.15,0 ; 27.15,1.3 27.15,1.8 ; 27.15,2.3 27.15,1.8 ; 27.65,-1.8 27.15,-1.8 ; 27.65,0 27.15,0 ; 27.65,1.8 27.15,1.8 ; -28.15,-1.8 ccw(c-27.15,-1.8) -26.15,-1.8 -26.15,1.8 ccw(c-27.15,1.8) -28.15,1.8 -28.15,-1.8 ; -13.55,-1.8 ccw(c-12.55,-1.8) -11.55,-1.8 -11.55,1.8 ccw(c-12.55,1.8) -13.55,1.8 -13.55,-1.8 ; 11.55,-1.8 ccw(c12.55,-1.8) 13.55,-1.8 13.55,1.8 ccw(c12.55,1.8) 11.55,1.8 11.55,-1.8 ; 26.15,-1.8 ccw(c27.15,-1.8) 28.15,-1.8 28.15,1.8 ccw(c27.15,1.8) 26.15,1.8 26.15,-1.8
Mechanical 14:
  lines w0.1: -25.972,-3.05 ccw(c0,0) -25.826,-4.103 ; -25.972,3.05 cw(c0,0) -25.826,4.105 ; -23.2,-1.8 -23.2,-3.05 -28.4,-3.05 -28.4,3.05 -23.2,3.05 -23.2,1.8 ; -17.2,-1.8 -27.3,-1.8 -27.3,1.8 -17.2,1.8 ; -13.462,-1.8 ccw(c5,0) -13.359,-2.652 ; -13.462,1.8 cw(c5,0) -13.357,2.666 ; -12.2,-1.8 -12.2,1.8 ; 12.2,-1.8 12.2,1.8 ; 17.2,-1.8 27.3,-1.8 27.3,1.8 17.2,1.8 ; 17.896,4.883 cw(c0,0) 18.462,1.8 ; 17.903,-4.856 ccw(c0,0) 18.462,-1.8 ; 23.2,-1.8 23.2,-3.05 28.4,-3.05 28.4,3.05 23.2,3.05 23.2,1.8 ; 25.134,-7.219 ccw(c0,0) 25.972,-3.05 ; 25.133,7.221 cw(c0,0) 25.972,3.05 ; -27.436,-5.333 cw(c-26.553,-5.161) -26.725,-4.278 -17.497,-2.484 cw(c-17.326,-3.368) -16.442,-3.196 ccw(c0,0) 15.935,-5.162 cw(c16.791,-5.44) 17.07,-4.584 26.006,-7.503 cw(c25.726,-8.359) 26.582,-8.637 cw(c0,0) -27.436,-5.333 ; -27.436,5.333 ccw(c-26.553,5.161) -26.723,4.278 -17.493,2.5 ccw(c-17.323,3.383) -16.439,3.211 cw(c0,0) 15.926,5.19 ccw(c16.781,5.469) 17.058,4.612 26.003,7.503 ccw(c25.726,8.359) 26.582,8.637 ccw(c0,0) -27.436,5.333
3D body "IND_EDA-02863-V1-0_misc1.stp": height 49.2, standoff -17.2, extent -28.4,-27.961 28.4,27.961

## IND_EDA-02863-V2-0_misc1 [mm] "see EDA-02863-V2-0_misc1"
height 49.2
pads (8):
  round 2.9 hole 2.2: 1(-27.083,-5.5) 2(16.154,-5.5) 3(-27.083,5.5) 4(16.154,5.5)
  oval 1x4.6 hole 2 slot 5.6 at 90 deg unplated mask+0.5: 5(-27.15,0) 5(-12.55,0) 5(12.55,0) 5(27.15,0)
Top Overlay:
  lines w0.2: -28.4,-2.43 -28.4,-3.05 -27.78,-3.05 ; -28.4,2.43 -28.4,3.05 -27.78,3.05 ; -26.967,-7.346 ccw(c0,0) 26.582,-8.637 ccw(c25.726,-8.359) 26.006,-7.503 17.886,-4.85 ; -26.967,7.346 cw(c0,0) 26.582,8.637 cw(c25.726,8.359) 26.003,7.503 17.898,4.884 ; -26.52,-3.05 -23.2,-3.05 -23.2,-1.8 ; -26.52,3.05 -23.2,3.05 -23.2,1.8 ; -25.972,-3.05 ccw(c0,0) -25.826,-4.103 ; -25.972,3.05 cw(c0,0) -25.826,4.105 ; -25.862,-4.11 -17.497,-2.484 cw(c-17.326,-3.368) -16.442,-3.196 ; -25.86,4.111 -17.493,2.5 ccw(c-17.323,3.383) -16.439,3.211 ; -25.75,-1.8 -17.2,-1.8 -17.2,1.8 -25.75,1.8 ; -18.462,-1.8 ccw(c0,0) -18.359,-2.652 ; -18.462,1.8 cw(c0,0) -18.357,2.666 ; -16.608,2.836 ccw(c-17.323,3.383) -16.439,3.211 ; -16.603,-2.831 cw(c-17.326,-3.368) -16.442,-3.196 ; 15.183,-7.075 cw(c0,0) -16.442,-3.196 ; 15.183,7.075 ccw(c0,0) -16.439,3.211 ; 17.896,4.883 cw(c0,0) 18.462,1.8 ; 17.903,-4.856 ccw(c0,0) 18.462,-1.8 ; 23.2,-1.8 23.2,-3.05 26.52,-3.05 ; 23.2,1.8 23.2,3.05 26.52,3.05 ; 25.134,-7.219 ccw(c0,0) 25.972,-3.05 ; 25.133,7.221 cw(c0,0) 25.972,3.05 ; 25.75,-1.8 17.2,-1.8 17.2,1.8 25.75,1.8 ; 27.78,-3.05 28.4,-3.05 28.4,3.05 27.78,3.05
  text "3" at -30.6,4.9 h1.5
  text "2" at 12.3,-6.3 h1.5
  text "1" at -30.4,-6.3 h1.5
  text "4" at 12.2,4.8 h1.5
Mechanical 8:
  circle w0.1: c16.154,-5.5 r1.45
  circle w0.1: c16.154,-5.5 r1.1
  circle w0.1: c-27.083,-5.5 r1.45
  circle w0.1: c-27.083,-5.5 r1.1
  circle w0.1: c16.154,5.5 r1.45
  circle w0.1: c16.154,5.5 r1.1
  circle w0.1: c-27.083,5.5 r1.45
  circle w0.1: c-27.083,5.5 r1.1
  lines w0.1: -27.65,-1.8 -27.15,-1.8 ; -27.65,0 -27.15,0 ; -27.65,1.8 -27.15,1.8 ; -27.583,-5.5 -27.083,-5.5 ; -27.583,5.5 -27.083,5.5 ; -27.15,-2.3 -27.15,-1.8 ; -27.15,-1.3 -27.15,-1.8 ; -27.15,-0.5 -27.15,0 ; -27.15,0.5 -27.15,0 ; -27.15,1.3 -27.15,1.8 ; -27.15,2.3 -27.15,1.8 ; -27.083,-6 -27.083,-5.5 ; -27.083,-5 -27.083,-5.5 ; -27.083,5 -27.083,5.5 ; -27.083,6 -27.083,5.5 ; -26.65,-1.8 -27.15,-1.8 ; -26.65,0 -27.15,0 ; -26.65,1.8 -27.15,1.8 ; -26.583,-5.5 -27.083,-5.5 ; -26.583,5.5 -27.083,5.5 ; -13.05,-1.8 -12.55,-1.8 ; -13.05,0 -12.55,0 ; -13.05,1.8 -12.55,1.8 ; -12.55,-2.3 -12.55,-1.8 ; -12.55,-1.3 -12.55,-1.8 ; -12.55,-0.5 -12.55,0 ; -12.55,0.5 -12.55,0 ; -12.55,1.3 -12.55,1.8 ; -12.55,2.3 -12.55,1.8 ; -12.05,-1.8 -12.55,-1.8 ; -12.05,0 -12.55,0 ; -12.05,1.8 -12.55,1.8 ; -0.5,0 0,0 ; 0,-0.5 0,0 ; 0,0.5 0,0 ; 0.5,0 0,0 ; 12.05,-1.8 12.55,-1.8 ; 12.05,0 12.55,0 ; 12.05,1.8 12.55,1.8 ; 12.55,-2.3 12.55,-1.8 ; 12.55,-1.3 12.55,-1.8 ; 12.55,-0.5 12.55,0 ; 12.55,0.5 12.55,0 ; 12.55,1.3 12.55,1.8 ; 12.55,2.3 12.55,1.8 ; 13.05,-1.8 12.55,-1.8 ; 13.05,0 12.55,0 ; 13.05,1.8 12.55,1.8 ; 15.654,-5.5 16.154,-5.5 ; 15.654,5.5 16.154,5.5 ; 16.154,-6 16.154,-5.5 ; 16.154,-5 16.154,-5.5 ; 16.154,5 16.154,5.5 ; 16.154,6 16.154,5.5 ; 16.654,-5.5 16.154,-5.5 ; 16.654,5.5 16.154,5.5 ; 26.65,-1.8 27.15,-1.8 ; 26.65,0 27.15,0 ; 26.65,1.8 27.15,1.8 ; 27.15,-2.3 27.15,-1.8 ; 27.15,-1.3 27.15,-1.8 ; 27.15,-0.5 27.15,0 ; 27.15,0.5 27.15,0 ; 27.15,1.3 27.15,1.8 ; 27.15,2.3 27.15,1.8 ; 27.65,-1.8 27.15,-1.8 ; 27.65,0 27.15,0 ; 27.65,1.8 27.15,1.8 ; -28.15,-1.8 ccw(c-27.15,-1.8) -26.15,-1.8 -26.15,1.8 ccw(c-27.15,1.8) -28.15,1.8 -28.15,-1.8 ; -13.55,-1.8 ccw(c-12.55,-1.8) -11.55,-1.8 -11.55,1.8 ccw(c-12.55,1.8) -13.55,1.8 -13.55,-1.8 ; 11.55,-1.8 ccw(c12.55,-1.8) 13.55,-1.8 13.55,1.8 ccw(c12.55,1.8) 11.55,1.8 11.55,-1.8 ; 26.15,-1.8 ccw(c27.15,-1.8) 28.15,-1.8 28.15,1.8 ccw(c27.15,1.8) 26.15,1.8 26.15,-1.8
Mechanical 14:
  lines w0.1: -25.972,-3.05 ccw(c0,0) -25.826,-4.103 ; -25.972,3.05 cw(c0,0) -25.826,4.105 ; -23.2,-1.8 -23.2,-3.05 -28.4,-3.05 -28.4,3.05 -23.2,3.05 -23.2,1.8 ; -18.462,-1.8 ccw(c0,0) -18.359,-2.652 ; -18.462,1.8 cw(c0,0) -18.357,2.666 ; 17.896,4.883 cw(c0,0) 18.462,1.8 ; 17.903,-4.856 ccw(c0,0) 18.462,-1.8 ; 23.2,-1.8 23.2,-3.05 28.4,-3.05 28.4,3.05 23.2,3.05 23.2,1.8 ; 25.134,-7.219 ccw(c0,0) 25.972,-3.05 ; 25.133,7.221 cw(c0,0) 25.972,3.05 ; -27.436,-5.333 cw(c-26.553,-5.161) -26.725,-4.278 -17.497,-2.484 cw(c-17.326,-3.368) -16.442,-3.196 ccw(c0,0) 15.935,-5.162 cw(c16.791,-5.44) 17.07,-4.584 26.006,-7.503 cw(c25.726,-8.359) 26.582,-8.637 cw(c0,0) -27.436,-5.333 ; -27.436,5.333 ccw(c-26.553,5.161) -26.723,4.278 -17.493,2.5 ccw(c-17.323,3.383) -16.439,3.211 cw(c0,0) 15.926,5.19 ccw(c16.781,5.469) 17.058,4.612 26.003,7.503 ccw(c25.726,8.359) 26.582,8.637 ccw(c0,0) -27.436,5.333 ; -27.3,-1.8 -27.3,1.8 -17.2,1.8 -17.2,-1.8 -27.3,-1.8 ; 17.2,-1.8 17.2,1.8 27.3,1.8 27.3,-1.8 17.2,-1.8
3D body "EDA-02863-V2-0_misc1.stp": height 49.2, standoff -17.2, extent -28.4,-27.961 28.4,27.961

## IND_EDA-03282-V1-0_misc1 [mm] "see EDA-03282-V1-0 _misc1"
height 12.9
pads (10):
  round 2 hole 1.3: 1(-10,11.25) 1(-5,11.25) 1(0,11.25) 1(5,11.25) 1(10,11.25) 2(-10,-11.25) 2(-5,-11.25) 2(0,-11.25) 2(5,-11.25) 2(10,-11.25)
Top Overlay:
  lines w0.2: -12.3,12.6 cw(c-11.5,12) -11.5,13 -11.482,13 -10.313,12.61 ccw(c-10.25,12.8) -10.169,12.617 -9.269,13.017 ccw(c-9.309,13.109) -9.35,13.2 -10.179,12.832 cw(c-10.26,13.014) -10.324,12.825 -12.421,13.524 ccw(c-12.485,13.334) -12.683,13.361 -13.588,6.758 ccw(c-13.389,6.731) -13.589,6.731 -13.589,-6.531 ccw(c-13.389,-6.531) -13.588,-6.558 -12.683,-13.161 ccw(c-12.485,-13.134) -12.421,-13.324 -10.303,-12.618 cw(c-10.239,-12.807) -10.196,-12.612 -9.35,-12.8 -10.85,-12.8 ; -11.1,-12.4 -12.5,-12.4 -12.5,12.6 12.5,12.6 12.5,-12.4 11.1,-12.4 ; -10.85,13 -9.8,13 ; -9.55,-9.95 -9.55,9.95 ; -9.55,-9.2 9.55,-9.2 ; -9.55,9.4 9.55,9.4 ; -9.308,13 9.308,13 ; -9.307,-12.8 9.307,-12.8 ; -6.55,-8.1 -6.55,8.3 ; 6.55,-8.1 6.55,8.3 ; 9.55,-9.95 9.55,9.95 ; 9.8,13 10.85,13 ; 10.85,-12.8 9.35,-12.8 10.196,-12.612 cw(c10.239,-12.807) 10.303,-12.618 12.421,-13.324 ccw(c12.485,-13.134) 12.683,-13.161 13.588,-6.558 ccw(c13.39,-6.531) 13.59,-6.531 13.59,6.731 ccw(c13.39,6.731) 13.588,6.758 12.683,13.361 ccw(c12.485,13.334) 12.421,13.524 10.324,12.825 cw(c10.26,13.014) 10.179,12.832 9.35,13.2 ccw(c9.309,13.109) 9.269,13.017 10.169,12.617 ccw(c10.25,12.8) 10.313,12.61 11.498,13.005 ; 11.483,13 11.5,13 cw(c11.5,12) 12.3,12.6 ; -9,-8.9 9,-8.9 9,-8.1 -9,-8.1 -9,-8.9 ; -9,8.3 9,8.3 9,9.1 -9,9.1 -9,8.3
  text "1" at -10.8,8.6 h1
  text "5" at 10.4,8.6 h1
  text "6" at 10.4,-9.6 h1
  text "10" at -11.6,-9.6 h1
Mechanical 8:
  lines w0.1: -10.5,-11.25 -10,-11.25 ; -10.5,11.25 -10,11.25 ; -10,-11.75 -10,-11.25 ; -10,-10.75 -10,-11.25 ; -10,10.75 -10,11.25 ; -10,11.75 -10,11.25 ; -9.5,-11.25 -10,-11.25 ; -9.5,11.25 -10,11.25 ; -5.5,-11.25 -5,-11.25 ; -5.5,11.25 -5,11.25 ; -5,-11.75 -5,-11.25 ; -5,-10.75 -5,-11.25 ; -5,10.75 -5,11.25 ; -5,11.75 -5,11.25 ; -4.5,-11.25 -5,-11.25 ; -4.5,11.25 -5,11.25 ; -0.5,-11.25 0,-11.25 ; -0.5,0 0,0 ; -0.5,11.25 0,11.25 ; 0,-11.75 0,-11.25 ; 0,-10.75 0,-11.25 ; 0,-0.5 0,0 ; 0,0.5 0,0 ; 0,10.75 0,11.25 ; 0,11.75 0,11.25 ; 0.5,-11.25 0,-11.25 ; 0.5,0 0,0 ; 0.5,11.25 0,11.25 ; 4.5,-11.25 5,-11.25 ; 4.5,11.25 5,11.25 ; 5,-11.75 5,-11.25 ; 5,-10.75 5,-11.25 ; 5,10.75 5,11.25 ; 5,11.75 5,11.25 ; 5.5,-11.25 5,-11.25 ; 5.5,11.25 5,11.25 ; 9.5,-11.25 10,-11.25 ; 9.5,11.25 10,11.25 ; 10,-11.75 10,-11.25 ; 10,-10.75 10,-11.25 ; 10,10.75 10,11.25 ; 10,11.75 10,11.25 ; 10.5,-11.25 10,-11.25 ; 10.5,11.25 10,11.25 ; -11,-12.25 11,-12.25 11,-10.25 -11,-10.25 -11,-12.25 ; -11,10.25 11,10.25 11,12.25 -11,12.25 -11,10.25
Mechanical 14:
  lines w0.1: -12.3,-12.4 ccw(c-11.5,-11.8) -11.5,-12.8 -11.482,-12.8 ; -12.3,12.6 cw(c-11.5,12) -11.5,13 -11.482,13 ; -10.85,-12.8 -9.35,-12.8 ; -10.85,13 -9.8,13 ; -9.55,-9.2 9.55,-9.2 ; -9.55,9.4 9.55,9.4 ; -9.308,13 9.308,13 ; -9.307,-12.8 9.307,-12.8 ; -6.55,-8.1 -6.55,8.3 ; 6.55,-8.1 6.55,8.3 ; 9.8,13 10.85,13 ; 10.85,-12.8 9.35,-12.8 ; 11.483,-12.8 11.5,-12.8 ccw(c11.5,-11.8) 12.3,-12.4 ; 11.483,13 11.5,13 cw(c11.5,12) 12.3,12.6 ; -9.35,-12.8 ccw(c-9.328,-12.702) -9.307,-12.605 -10.207,-12.405 ccw(c-10.25,-12.6) -10.313,-12.41 -12.256,-13.058 cw(c-12.319,-12.868) -12.517,-12.895 -13.386,-6.558 cw(c-13.188,-6.53) -13.388,-6.531 -13.406,6.597 cw(c-13.206,6.598) -13.404,6.625 -12.517,13.095 cw(c-12.319,13.068) -12.256,13.258 -10.313,12.61 ccw(c-10.25,12.8) -10.169,12.617 -9.269,13.017 ccw(c-9.309,13.109) -9.35,13.2 -10.179,12.832 cw(c-10.26,13.014) -10.324,12.825 -12.421,13.524 ccw(c-12.485,13.334) -12.683,13.361 -13.588,6.758 ccw(c-13.389,6.731) -13.589,6.731 -13.589,-6.531 ccw(c-13.389,-6.531) -13.588,-6.558 -12.683,-13.161 ccw(c-12.485,-13.134) -12.421,-13.324 -10.303,-12.618 cw(c-10.239,-12.807) -10.196,-12.612 -9.35,-12.8 ; 9.35,-12.8 cw(c9.328,-12.702) 9.307,-12.605 10.207,-12.405 cw(c10.25,-12.6) 10.313,-12.41 12.256,-13.058 ccw(c12.319,-12.868) 12.517,-12.895 13.386,-6.558 ccw(c13.188,-6.53) 13.388,-6.531 13.406,6.598 ccw(c13.206,6.598) 13.404,6.625 12.517,13.095 ccw(c12.319,13.068) 12.256,13.258 10.313,12.61 cw(c10.25,12.8) 10.169,12.617 9.269,13.017 cw(c9.309,13.109) 9.35,13.2 10.179,12.832 ccw(c10.26,13.014) 10.324,12.825 12.421,13.524 cw(c12.485,13.334) 12.683,13.361 13.588,6.758 cw(c13.39,6.731) 13.59,6.731 13.59,-6.531 cw(c13.39,-6.531) 13.588,-6.558 12.683,-13.161 cw(c12.485,-13.134) 12.421,-13.324 10.303,-12.618 ccw(c10.239,-12.807) 10.196,-12.612 9.35,-12.8 ; -12.5,-12.4 12.5,-12.4 12.5,12.6 -12.5,12.6 -12.5,-12.4 ; -9.55,-12.2 9.55,-12.2 9.55,12.4 -9.55,12.4 -9.55,-12.2 ; -9,-8.9 9,-8.9 9,-8.1 -9,-8.1 -9,-8.9 ; -9,8.3 9,8.3 9,9.1 -9,9.1 -9,8.3
Multi-Layer:
  lines w2: -10,-11.25 10,-11.25 ; -10,11.25 10,11.25
3D body "IND_EDA-03282-V1-0_misc1.stp": height 12.9, standoff -3.5, extent -13.589,-13.333 13.59,13.534

## IND_EDA-03282-V1-0_misc2 [mm] "see EDA-03282-V1-0 _misc2"
height 12.9
pads (10):
  round 2 hole 1.3: 1(-10,11.25) 1(-5,11.25) 1(0,11.25) 1(5,11.25) 1(10,11.25) 2(-10,-11.25) 2(-5,-11.25) 2(0,-11.25) 2(5,-11.25) 2(10,-11.25)
Top Overlay:
  lines w0.2: -12.3,12.6 cw(c-11.5,12) -11.5,13 -11.482,13 -10.313,12.61 ccw(c-10.25,12.8) -10.169,12.617 -9.269,13.017 ccw(c-9.309,13.109) -9.35,13.2 -10.179,12.832 cw(c-10.26,13.014) -10.324,12.825 -12.421,13.524 ccw(c-12.485,13.334) -12.683,13.361 -13.588,6.758 ccw(c-13.389,6.731) -13.589,6.731 -13.589,-6.531 ccw(c-13.389,-6.531) -13.588,-6.558 -12.683,-13.161 ccw(c-12.485,-13.134) -12.421,-13.324 -10.303,-12.618 cw(c-10.239,-12.807) -10.196,-12.612 -9.35,-12.8 -10.85,-12.8 ; -11.1,-12.4 -12.5,-12.4 -12.5,12.6 12.5,12.6 12.5,-12.4 11.1,-12.4 ; -10.85,13 -9.8,13 ; -9.55,-9.95 -9.55,9.95 ; -9.55,-9.2 9.55,-9.2 ; -9.55,9.4 9.55,9.4 ; -9.308,13 9.308,13 ; -9.307,-12.8 9.307,-12.8 ; -6.55,-8.1 -6.55,8.3 ; 6.55,-8.1 6.55,8.3 ; 9.55,-9.95 9.55,9.95 ; 9.8,13 10.85,13 ; 10.85,-12.8 9.35,-12.8 10.196,-12.612 cw(c10.239,-12.807) 10.303,-12.618 12.421,-13.324 ccw(c12.485,-13.134) 12.683,-13.161 13.588,-6.558 ccw(c13.39,-6.531) 13.59,-6.531 13.59,6.731 ccw(c13.39,6.731) 13.588,6.758 12.683,13.361 ccw(c12.485,13.334) 12.421,13.524 10.324,12.825 cw(c10.26,13.014) 10.179,12.832 9.35,13.2 ccw(c9.309,13.109) 9.269,13.017 10.169,12.617 ccw(c10.25,12.8) 10.313,12.61 11.498,13.005 ; 11.483,13 11.5,13 cw(c11.5,12) 12.3,12.6 ; -9,-8.9 9,-8.9 9,-8.1 -9,-8.1 -9,-8.9 ; -9,8.3 9,8.3 9,9.1 -9,9.1 -9,8.3
  text "1" at -10.8,8.6 h1
  text "5" at 10.4,8.6 h1
  text "6" at 10.4,-9.6 h1
  text "10" at -11.6,-9.6 h1
Mechanical 8:
  lines w0.1: -10.5,-11.25 -10,-11.25 ; -10.5,11.25 -10,11.25 ; -10,-11.75 -10,-11.25 ; -10,-10.75 -10,-11.25 ; -10,10.75 -10,11.25 ; -10,11.75 -10,11.25 ; -9.5,-11.25 -10,-11.25 ; -9.5,11.25 -10,11.25 ; -5.5,-11.25 -5,-11.25 ; -5.5,11.25 -5,11.25 ; -5,-11.75 -5,-11.25 ; -5,-10.75 -5,-11.25 ; -5,10.75 -5,11.25 ; -5,11.75 -5,11.25 ; -4.5,-11.25 -5,-11.25 ; -4.5,11.25 -5,11.25 ; -0.5,-11.25 0,-11.25 ; -0.5,0 0,0 ; -0.5,11.25 0,11.25 ; 0,-11.75 0,-11.25 ; 0,-10.75 0,-11.25 ; 0,-0.5 0,0 ; 0,0.5 0,0 ; 0,10.75 0,11.25 ; 0,11.75 0,11.25 ; 0.5,-11.25 0,-11.25 ; 0.5,0 0,0 ; 0.5,11.25 0,11.25 ; 4.5,-11.25 5,-11.25 ; 4.5,11.25 5,11.25 ; 5,-11.75 5,-11.25 ; 5,-10.75 5,-11.25 ; 5,10.75 5,11.25 ; 5,11.75 5,11.25 ; 5.5,-11.25 5,-11.25 ; 5.5,11.25 5,11.25 ; 9.5,-11.25 10,-11.25 ; 9.5,11.25 10,11.25 ; 10,-11.75 10,-11.25 ; 10,-10.75 10,-11.25 ; 10,10.75 10,11.25 ; 10,11.75 10,11.25 ; 10.5,-11.25 10,-11.25 ; 10.5,11.25 10,11.25 ; -11,-12.25 11,-12.25 11,-10.25 -11,-10.25 -11,-12.25 ; -11,10.25 11,10.25 11,12.25 -11,12.25 -11,10.25
Mechanical 14:
  lines w0.1: -12.3,-12.4 ccw(c-11.5,-11.8) -11.5,-12.8 -11.482,-12.8 ; -12.3,12.6 cw(c-11.5,12) -11.5,13 -11.482,13 ; -10.85,-12.8 -9.35,-12.8 ; -10.85,13 -9.8,13 ; -9.55,-9.2 9.55,-9.2 ; -9.55,9.4 9.55,9.4 ; -9.308,13 9.308,13 ; -9.307,-12.8 9.307,-12.8 ; -6.55,-8.1 -6.55,8.3 ; 6.55,-8.1 6.55,8.3 ; 9.8,13 10.85,13 ; 10.85,-12.8 9.35,-12.8 ; 11.483,-12.8 11.5,-12.8 ccw(c11.5,-11.8) 12.3,-12.4 ; 11.483,13 11.5,13 cw(c11.5,12) 12.3,12.6 ; -9.35,-12.8 ccw(c-9.328,-12.702) -9.307,-12.605 -10.207,-12.405 ccw(c-10.25,-12.6) -10.313,-12.41 -12.256,-13.058 cw(c-12.319,-12.868) -12.517,-12.895 -13.386,-6.558 cw(c-13.188,-6.53) -13.388,-6.531 -13.406,6.597 cw(c-13.206,6.598) -13.404,6.625 -12.517,13.095 cw(c-12.319,13.068) -12.256,13.258 -10.313,12.61 ccw(c-10.25,12.8) -10.169,12.617 -9.269,13.017 ccw(c-9.309,13.109) -9.35,13.2 -10.179,12.832 cw(c-10.26,13.014) -10.324,12.825 -12.421,13.524 ccw(c-12.485,13.334) -12.683,13.361 -13.588,6.758 ccw(c-13.389,6.731) -13.589,6.731 -13.589,-6.531 ccw(c-13.389,-6.531) -13.588,-6.558 -12.683,-13.161 ccw(c-12.485,-13.134) -12.421,-13.324 -10.303,-12.618 cw(c-10.239,-12.807) -10.196,-12.612 -9.35,-12.8 ; 9.35,-12.8 cw(c9.328,-12.702) 9.307,-12.605 10.207,-12.405 cw(c10.25,-12.6) 10.313,-12.41 12.256,-13.058 ccw(c12.319,-12.868) 12.517,-12.895 13.386,-6.558 ccw(c13.188,-6.53) 13.388,-6.531 13.406,6.598 ccw(c13.206,6.598) 13.404,6.625 12.517,13.095 ccw(c12.319,13.068) 12.256,13.258 10.313,12.61 cw(c10.25,12.8) 10.169,12.617 9.269,13.017 cw(c9.309,13.109) 9.35,13.2 10.179,12.832 ccw(c10.26,13.014) 10.324,12.825 12.421,13.524 cw(c12.485,13.334) 12.683,13.361 13.588,6.758 cw(c13.39,6.731) 13.59,6.731 13.59,-6.531 cw(c13.39,-6.531) 13.588,-6.558 12.683,-13.161 cw(c12.485,-13.134) 12.421,-13.324 10.303,-12.618 ccw(c10.239,-12.807) 10.196,-12.612 9.35,-12.8 ; -12.5,-12.4 12.5,-12.4 12.5,12.6 -12.5,12.6 -12.5,-12.4 ; -9.55,-12.2 9.55,-12.2 9.55,12.4 -9.55,12.4 -9.55,-12.2 ; -9,-8.9 9,-8.9 9,-8.1 -9,-8.1 -9,-8.9 ; -9,8.3 9,8.3 9,9.1 -9,9.1 -9,8.3
Multi-Layer:
  lines w2: -10,-11.25 10,-11.25 ; -10,11.25 10,11.25
3D body "IND_EDA-03282-V1-0_misc2.stp": height 12.9, standoff -3.5, extent -13.589,-13.333 13.59,13.534

## IND_NKL_R1003VKS [mm] "Current Compensated Chokes R1003VKS Series"
height 13
pads (4):
  round 1.4 hole 0.7: 1(-3.75,-2) 2(-3.75,2) 3(3.75,-2) 4(3.75,2)
Top Overlay:
  lines w0.2: -5.05,-2.338 -5.05,-3.05 5.05,-3.05 5.05,-2.338 ; -5.05,2.338 -5.05,3.05 5.05,3.05 5.05,2.338 ; -4.799,-2.05 cw(c-3.85,-0.7) -5.5,-0.7 -5.5,0.7 cw(c-3.85,0.7) -4.799,2.05 ; -4.765,-2.267 cw(c-4.25,-0.7) -5.9,-0.7 -5.9,0.7 cw(c-4.25,0.7) -4.765,2.267 ; -4.744,-2.339 cw(c-4.55,-0.7) -6.2,-0.7 -6.2,0.7 cw(c-4.55,0.7) -4.744,2.339 ; -4.74,-2.35 -4.85,-2.35 cw(c-4.85,-0.7) -6.5,-0.7 -6.5,0.7 cw(c-4.85,0.7) -4.85,2.35 -4.74,2.35 ; -4.725,-1.611 cw(c-3.35,-0.7) -5,-0.7 -5,0.7 cw(c-3.35,0.7) -4.725,1.611 ; -4.485,-1.25 cw(c-3.2,-1.05) -4.5,-1.05 -4.5,1.05 cw(c-3.2,1.05) -4.485,1.25 ; -3.7,-0.951 -3.7,0.951 ; -2.76,-2.35 -1.49,-2.35 ; -2.759,-2.348 ccw(c-2.7,-1.35) -2.7,-2.35 ; -2.759,2.348 cw(c-2.7,1.35) -2.7,2.35 ; -2.76,2.35 -1.49,2.35 ; -1.9,-2.35 cw(c-1.9,-1.55) -2.7,-1.55 -2.7,1.55 cw(c-1.9,1.55) -1.9,2.35 ; -1.7,-2.35 cw(c-1.7,-2.05) -2,-2.05 -2,2.05 cw(c-1.7,2.05) -1.7,2.35 ; -1.49,-3.05 -1.49,3.05 ; 1.49,-3.05 1.49,3.05 ; 1.49,-2.35 2.76,-2.35 ; 1.49,2.35 2.76,2.35 ; 1.7,-2.35 ccw(c1.7,-2.05) 2,-2.05 2,2.05 ccw(c1.7,2.05) 1.7,2.35 ; 1.9,-2.35 ccw(c1.9,-1.55) 2.7,-1.55 2.7,1.55 ccw(c1.9,1.55) 1.9,2.35 ; 2.7,-2.35 ccw(c2.7,-1.35) 2.759,-2.348 ; 2.7,2.35 cw(c2.7,1.35) 2.759,2.348 ; 3.7,-0.951 3.7,0.951 ; 4.485,-1.25 ccw(c3.2,-1.05) 4.5,-1.05 4.5,1.05 ccw(c3.2,1.05) 4.485,1.25 ; 4.725,-1.611 ccw(c3.35,-0.7) 5,-0.7 5,0.7 ccw(c3.35,0.7) 4.725,1.611 ; 4.74,-2.35 4.85,-2.35 ccw(c4.85,-0.7) 6.5,-0.7 6.5,0.7 ccw(c4.85,0.7) 4.85,2.35 4.74,2.35 ; 4.744,-2.339 ccw(c4.55,-0.7) 6.2,-0.7 6.2,0.7 ccw(c4.55,0.7) 4.744,2.339 ; 4.765,-2.267 ccw(c4.25,-0.7) 5.9,-0.7 5.9,0.7 ccw(c4.25,0.7) 4.765,2.267 ; 4.799,-2.05 ccw(c3.85,-0.7) 5.5,-0.7 5.5,0.7 ccw(c3.85,0.7) 4.799,2.05
  text "1" at -3.1,-4 h1.5
Mechanical 8:
  lines w0.1: -4.25,-2 -3.75,-2 ; -4.25,2 -3.75,2 ; -3.75,-2.5 -3.75,-2 ; -3.75,-1.5 -3.75,-2 ; -3.75,1.5 -3.75,2 ; -3.75,2.5 -3.75,2 ; -3.25,-2 -3.75,-2 ; -3.25,2 -3.75,2 ; -0.5,0 0,0 ; 0,-0.5 0,0 ; 0,0.5 0,0 ; 0.5,0 0,0 ; 3.25,-2 3.75,-2 ; 3.25,2 3.75,2 ; 3.75,-2.5 3.75,-2 ; 3.75,-1.5 3.75,-2 ; 3.75,1.5 3.75,2 ; 3.75,2.5 3.75,2 ; 4.25,-2 3.75,-2 ; 4.25,2 3.75,2
Mechanical 14:
  lines w0.1: -5.05,-2.338 -5.05,-3.05 5.05,-3.05 5.05,-2.338 ; -5.05,2.338 -5.05,3.05 5.05,3.05 5.05,2.338 ; -4.55,-2.35 cw(c-4.55,-0.7) -6.2,-0.7 -6.2,0.7 cw(c-4.55,0.7) -4.55,2.35 ; -4.25,-2.35 cw(c-4.25,-0.7) -5.9,-0.7 -5.9,0.7 cw(c-4.25,0.7) -4.25,2.35 ; -3.85,-2.35 cw(c-3.85,-0.7) -5.5,-0.7 -5.5,0.7 cw(c-3.85,0.7) -3.85,2.35 ; -3.35,-2.35 cw(c-3.35,-0.7) -5,-0.7 -5,0.7 cw(c-3.35,0.7) -3.35,2.35 ; -3.2,-2.35 cw(c-3.2,-1.05) -4.5,-1.05 -4.5,1.05 cw(c-3.2,1.05) -3.2,2.35 ; -2.7,-2.35 cw(c-2.7,-1.35) -3.7,-1.35 -3.7,1.35 cw(c-2.7,1.35) -2.7,2.35 ; -1.9,-2.35 cw(c-1.9,-1.55) -2.7,-1.55 -2.7,1.55 cw(c-1.9,1.55) -1.9,2.35 ; -1.7,-2.35 cw(c-1.7,-2.05) -2,-2.05 -2,2.05 cw(c-1.7,2.05) -1.7,2.35 ; -1.49,-3.05 -1.49,3.05 ; -1.49,-2.35 -4.85,-2.35 cw(c-4.85,-0.7) -6.5,-0.7 -6.5,0.7 cw(c-4.85,0.7) -4.85,2.35 -1.49,2.35 ; 1.49,-3.05 1.49,3.05 ; 1.49,-2.35 4.85,-2.35 ccw(c4.85,-0.7) 6.5,-0.7 6.5,0.7 ccw(c4.85,0.7) 4.85,2.35 1.49,2.35 ; 1.7,-2.35 ccw(c1.7,-2.05) 2,-2.05 2,2.05 ccw(c1.7,2.05) 1.7,2.35 ; 1.9,-2.35 ccw(c1.9,-1.55) 2.7,-1.55 2.7,1.55 ccw(c1.9,1.55) 1.9,2.35 ; 2.7,-2.35 ccw(c2.7,-1.35) 3.7,-1.35 3.7,1.35 ccw(c2.7,1.35) 2.7,2.35 ; 3.2,-2.35 ccw(c3.2,-1.05) 4.5,-1.05 4.5,1.05 ccw(c3.2,1.05) 3.2,2.35 ; 3.35,-2.35 ccw(c3.35,-0.7) 5,-0.7 5,0.7 ccw(c3.35,0.7) 3.35,2.35 ; 3.85,-2.35 ccw(c3.85,-0.7) 5.5,-0.7 5.5,0.7 ccw(c3.85,0.7) 3.85,2.35 ; 4.25,-2.35 ccw(c4.25,-0.7) 5.9,-0.7 5.9,0.7 ccw(c4.25,0.7) 4.25,2.35 ; 4.55,-2.35 ccw(c4.55,-0.7) 6.2,-0.7 6.2,0.7 ccw(c4.55,0.7) 4.55,2.35
  text "1" at -3.1,-4 h1.5
3D body "IND_NKL_R1003VKS.stp": height 13, standoff -3.6, extent -6.5,-3.05 6.5,3.05